# Altium footprint library INDUCTOR_SMD.PcbLib: 13 footprints
Each footprint in its own frame and in the unit in brackets; x right, y up, seen from the top. Pads: shape width x height; smd on the part's side, far side on the other; paste and mask are expansions set on the pad; w line width, h text height; cw(c..) or ccw(c..) is an arc to the next point about the centre after c.
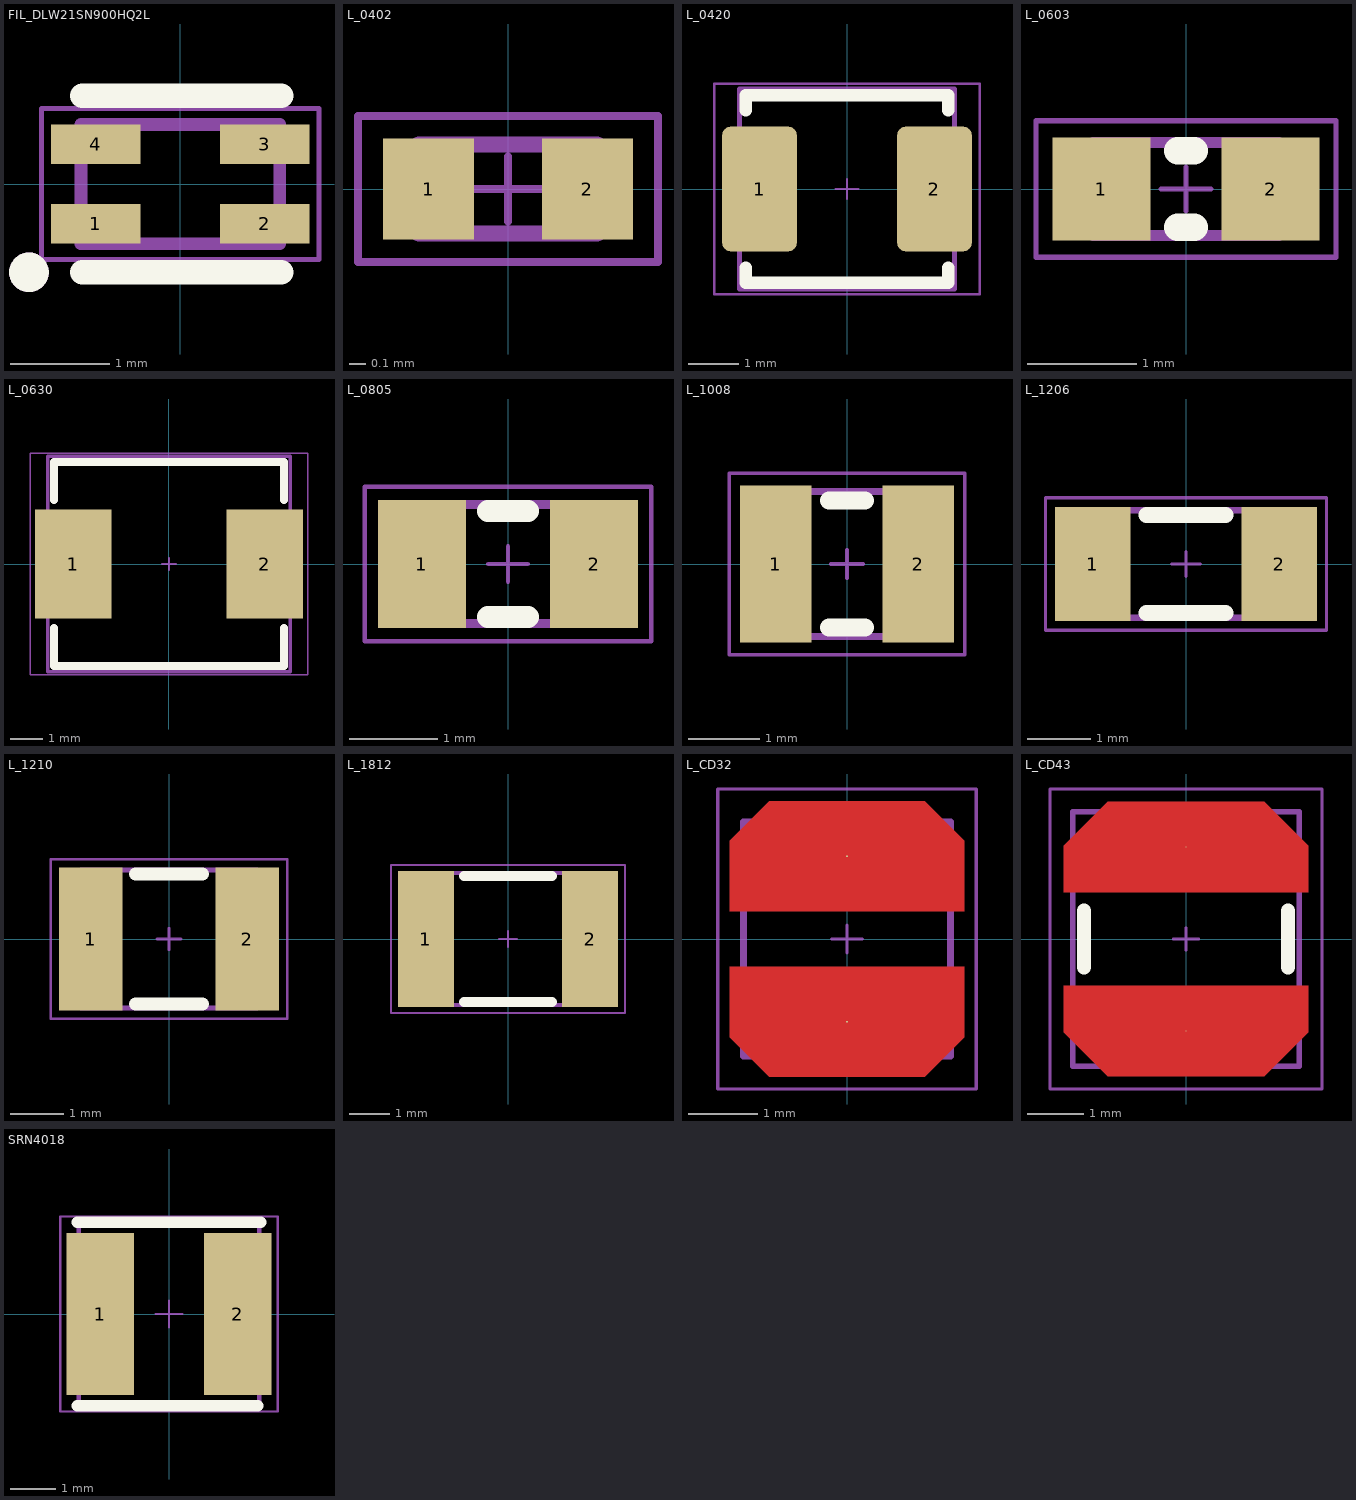
[diagram p0: the footprints below, top view; thin cyan lines are the x and y axes]

## FIL_DLW21SN900HQ2L [mm]
height 1.4
pads (4):
  rect 0.9x0.4 smd paste-1 mask+0.05: 1(-0.85,-0.4) 2(0.85,-0.4) 3(0.85,0.4) 4(-0.85,0.4)
Top Overlay:
  circle w0.2: c-1.524,-0.889 r0.1
  lines w0.25: -0.984,-0.889 1.016,-0.889 ; -0.984,0.889 1.016,0.889
Top Paste:
  region: -0.4,0.25 -1.3,0.25 -1.3,0.6 -0.4,0.6
  region: 1.3,0.25 0.4,0.25 0.4,0.6 1.3,0.6
  region: -0.4,-0.6 -1.3,-0.6 -1.3,-0.25 -0.4,-0.25
  region: 1.3,-0.6 0.4,-0.6 0.4,-0.25 1.3,-0.25
Mechanical 13:
  circle w0.2: c-1.524,-0.889 r0.1
  lines w0.127: -1,-0.6 1,-0.6 1,0.6 -1,0.6 -1,-0.6
Mechanical 15:
  lines w0.05: -1.397,-0.762 -1.397,0.762 1.397,0.762 1.397,-0.762 -1.397,-0.762
3D body "step_temp.STEP": height 1.4, standoff 0, extent -1,-0.6 1,0.6

## L_0402 [mm] "Inductor SMD 0402."
height 0.9
pads (2):
  rect 0.56x0.62 smd: 1(-0.49,0) 2(0.49,0)
Mechanical 13:
  lines w0.1: -0.55,-0.275 -0.55,0.275 0.55,0.275 0.55,-0.275 -0.55,-0.275
Mechanical 15:
  lines w0.05: -0.225,0 0.225,0 ; 0,-0.2 0,0.2 ; -0.925,-0.45 0.925,-0.45 0.925,0.45 -0.925,0.45 -0.925,-0.45
3D body "L0402.stp": height 0.52, standoff 0.01, extent -0.508,-0.254 0.508,0.254

## L_0420 [mm] "Inductor SMD 0420"
pads (2):
  rrect25% 1.5x2.5 smd: 1(-1.75,0) 2(1.75,0)
Top Overlay:
  lines w0.25: -2.025,-1.575 -2.025,-1.875 2.025,-1.875 2.025,-1.575 ; -2.025,1.575 -2.025,1.875 2.025,1.875 2.025,1.575
Mechanical 13:
  lines w0.1: -2.15,-2 -2.15,2 2.15,2 2.15,-2 -2.15,-2
Mechanical 15:
  lines w0.05: -0.225,0 0.225,0 ; 0,-0.2 0,0.2 ; -2.65,-2.1 2.65,-2.1 2.65,2.1 -2.65,2.1 -2.65,-2.1
3D body "CIP0420.step": height 2.2, standoff 0, extent -2.15,-2 2.15,2

## L_0603 [mm] "Inductor SMD 0603."
height 0.9
pads (2):
  rect 0.9x0.94 smd: 1(-0.775,0) 2(0.775,0)
Top Overlay:
  lines w0.25: -0.075,-0.35 0.075,-0.35 ; -0.075,0.35 0.075,0.35
Mechanical 13:
  lines w0.1: -0.85,-0.425 -0.85,0.425 0.85,0.425 0.85,-0.425 -0.85,-0.425
Mechanical 15:
  lines w0.05: -0.225,0 0.225,0 ; 0,-0.2 0,0.2 ; -1.375,-0.625 -1.375,0.625 1.375,0.625 1.375,-0.625 -1.375,-0.625
3D body "L0603.stp": height 0.81, standoff 0.01, extent -0.8,-0.4 0.8,0.4

## L_0630 [mm] "Inductor SMD 0630"
pads (2):
  rect 2.4x3.4 smd: 1(-3,0) 2(3,0)
Top Overlay:
  lines w0.25: -3.6,-2 -3.6,-3.2 3.6,-3.2 3.6,-2 ; -3.6,2 -3.6,3.2 3.6,3.2 3.6,2
Mechanical 13:
  lines w0.1: -3.8,-3.375 -3.8,3.375 3.8,3.375 3.8,-3.375 -3.8,-3.375
Mechanical 15:
  lines w0.05: -0.225,0 0.225,0 ; 0,-0.2 0,0.2 ; -4.35,-3.475 -4.35,1.125 -4.35,3.475 4.35,3.475 4.35,-3.475 -4.35,-3.475
3D body "CIP0630.step": height 3.2, standoff 0, extent -3.8,-3.375 3.8,3.375

## L_0805 [mm] "Inductor SMD 0805."
height 0.9
pads (2):
  rect 1x1.45 smd: 1(-0.975,0) 2(0.975,0)
Top Overlay:
  lines w0.25: -0.225,-0.6 0.225,-0.6 ; -0.225,0.6 0.225,0.6
Mechanical 13:
  lines w0.1: -1.05,-0.675 -1.05,0.675 1.05,0.675 1.05,-0.675 -1.05,-0.675
Mechanical 15:
  lines w0.05: -0.225,0 0.225,0 ; 0,-0.2 0,0.2 ; -1.625,-0.875 -1.625,0.875 1.625,0.875 1.625,-0.875 -1.625,-0.875
3D body "L0805.stp": height 0.61, standoff 0.01, extent -1,-0.625 1,0.625

## L_1008 [mm] "Inductor SMD 1008."
height 0.9
pads (2):
  rect 1x2.2 smd: 1(-1,0) 2(1,0)
Top Overlay:
  lines w0.25: -0.254,-0.889 0.254,-0.889 ; -0.254,0.889 0.254,0.889
Mechanical 13:
  lines w0.1: -1.27,-1.016 -1.27,1.016 1.27,1.016 1.27,-1.016 -1.27,-1.016
Mechanical 15:
  lines w0.05: -0.225,0 0.225,0 ; 0,-0.2 0,0.2 ; -1.651,-1.27 1.651,-1.27 1.651,1.27 -1.651,1.27 -1.651,-1.27
3D body "L1008.step": height 1.2, standoff 0, extent -1.25,-1 1.25,1

## L_1206 [mm] "Inductor SMD 1206."
height 0.9
pads (2):
  rect 1.2x1.8 smd: 1(-1.475,0) 2(1.475,0)
Top Overlay:
  lines w0.25: -0.625,-0.775 0.625,-0.775 ; -0.625,0.775 0.625,0.775
Mechanical 13:
  lines w0.1: -1.65,-0.85 1.65,-0.85 1.65,0.85 -1.65,0.85 -1.65,-0.85
Mechanical 15:
  lines w0.05: -0.225,0 0.225,0 ; 0,-0.2 0,0.2 ; -2.225,-1.05 -2.225,1.05 2.225,1.05 2.225,-1.05 -2.225,-1.05
3D body "L1206.stp": height 0.81, standoff 0.01, extent -1.6,-0.8 1.6,0.8

## L_1210 [mm] "Inductor SMD 1210."
height 0.9
pads (2):
  rect 1.2x2.7 smd: 1(-1.475,0) 2(1.475,0)
Top Overlay:
  lines w0.25: -0.625,-1.225 0.625,-1.225 ; -0.625,1.225 0.625,1.225
Mechanical 13:
  lines w0.1: -1.65,-1.3 -1.65,1.3 1.65,1.3 1.65,-1.3 -1.65,-1.3
Mechanical 15:
  lines w0.05: -0.225,0 0.225,0 ; 0,-0.2 0,0.2 ; -2.225,-1.5 2.225,-1.5 2.225,1.5 -2.225,1.5 -2.225,-1.5
3D body "L1210.stp": height 0.96, standoff 0.01, extent -1.6,-1.25 1.6,1.25

## L_1812 [mm] "Inductor SMD 1812."
height 0.9
pads (2):
  rect 1.4x3.4 smd: 1(-2.05,0) 2(2.05,0)
Top Overlay:
  lines w0.25: -1.1,-1.575 1.1,-1.575 ; -1.1,1.575 1.1,1.575
Mechanical 13:
  lines w0.1: -2.3,-1.65 2.3,-1.65 2.3,1.65 -2.3,1.65 -2.3,-1.65
Mechanical 15:
  lines w0.05: -0.225,0 0.225,0 ; 0,-0.2 0,0.2 ; -2.925,-1.85 -2.925,1.85 2.925,1.85 2.925,-1.85 -2.925,-1.85
3D body "L1812.stp": height 1.26, standoff 0.01, extent -2.25,-1.6 2.25,1.6

## L_CD32 [mil] "Inductor SMD CD32"
pads (2):
  round 1 smd: 1(0,47.24) 2(0,-47.24)
Top Layer:
  region: -66.93,15.75 -66.93,56.1 -44.29,78.74 44.29,78.74 66.93,56.1 66.93,15.75
  region: 66.93,-15.75 66.93,-56.1 44.29,-78.74 -44.29,-78.74 -66.93,-56.1 -66.93,-15.75
Mechanical 13:
  lines w3.94: -59.06,-66.93 59.06,-66.93 59.06,66.93 -59.06,66.93 -59.06,-66.93
Mechanical 15:
  lines w1.97: -8.86,0 8.86,0 ; 0,-7.87 0,7.87 ; -73.82,-85.63 -73.82,85.63 -68.9,85.63 73.82,85.63 73.82,-85.63 -73.82,-85.63
3D body "SMD_Inductor_CD32.STEP": height 83.44, standoff 0.79, extent -59.06,-65.01 59.06,65.01

## L_CD43 [mil] "Inductor SMD CD43"
pads (2):
  round 1 smd: 1(0,63.98) 2(0,-63.98)
Top Layer:
  region: -85,32.48 -85,65 -54.53,95.47 54.53,95.47 85,65 85,32.48
  region: 85,-32.48 85,-65 54.53,-95.47 -54.53,-95.47 -85,-65 -85,-32.48
Top Overlay:
  lines w9.84: -70.87,-19.68 -70.87,19.68 ; 70.87,-19.68 70.87,19.68
Mechanical 13:
  lines w3.94: -78.74,-88.58 78.74,-88.58 78.74,88.58 -78.74,88.58 -78.74,-88.58
Mechanical 15:
  lines w1.97: -8.86,0 8.86,0 ; 0,-7.87 0,7.87 ; -94.49,-104.33 -94.49,104.33 -87.6,104.33 94.49,104.33 94.49,-104.33 -94.49,-104.33
3D body "SMD_Inductor_CD43.step": height 127.76, standoff 0.39, extent -78.74,-88.58 78.74,88.58

## SRN4018 [mm]
pads (2):
  rect 1.5x3.6 smd: 1(-1.525,0) 2(1.525,0)
Top Overlay:
  lines w0.25: -2.032,-2.032 1.968,-2.032 ; -2.032,2.032 2.032,2.032
Mechanical 13:
  lines w0.1: -2,-2 -2,2 2,2 2,-2 -2,-2
Mechanical 15:
  lines w0.05: -0.3,0 0.3,0 ; 0,-0.3 0,0.3 ; -2.413,-2.159 -2.413,2.159 2.413,2.159 2.413,-2.159 -2.413,-2.159
3D body "NR4018.STEP": height 1.8, standoff 0, extent -2,-2 2,2